# EAGLE library part 182-009-113R531 (library circuit_tree)
IC
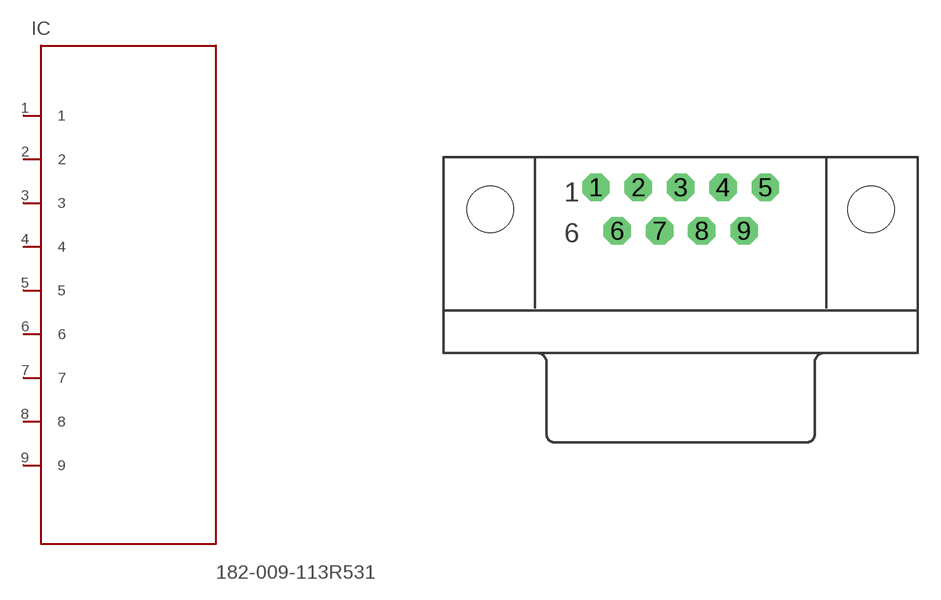
[diagram p1: symbol with the pads of 182-009-MALE; footprint 182-009-MALE]

Designator prefix IC

## 182-009-113R531  [182-009-MALE]
1  1  pas
2  2  pas
3  3  pas
4  4  pas
5  5  pas
6  6  pas
7  7  pas
8  8  pas
9  9  pas

## Footprint 182-009-MALE (pad centres in mm)
NORCOMP Right Angle D-Sub Connector, 182 Economy Series (.318" Footprint) Source: http://www.norcomp.net/ .. 182-yyy-113Ryy1Rev3.pdf
drill 1.194 pad 1.524 octagon: 1 -5.537,10.923; 2 -2.769,10.923; 3 0,10.923; 4 2.769,10.923; 5 5.537,10.923; 6 -4.153,8.08; 7 -1.384,8.08; 8 1.384,8.08; 9 4.153,8.08
hole 3.048 at -12.446,9.501
hole 3.048 at 12.446,9.501